# Altium footprint library RCDQLY.PCBLIB: 125 footprints (part 7 of 8)
Each footprint in its own frame and in the unit in brackets; x right, y up, seen from the top. Pads: shape width x height; smd on the part's side, far side on the other; paste and mask are expansions set on the pad; w line width, h text height; cw(c..) or ccw(c..) is an arc to the next point about the centre after c.
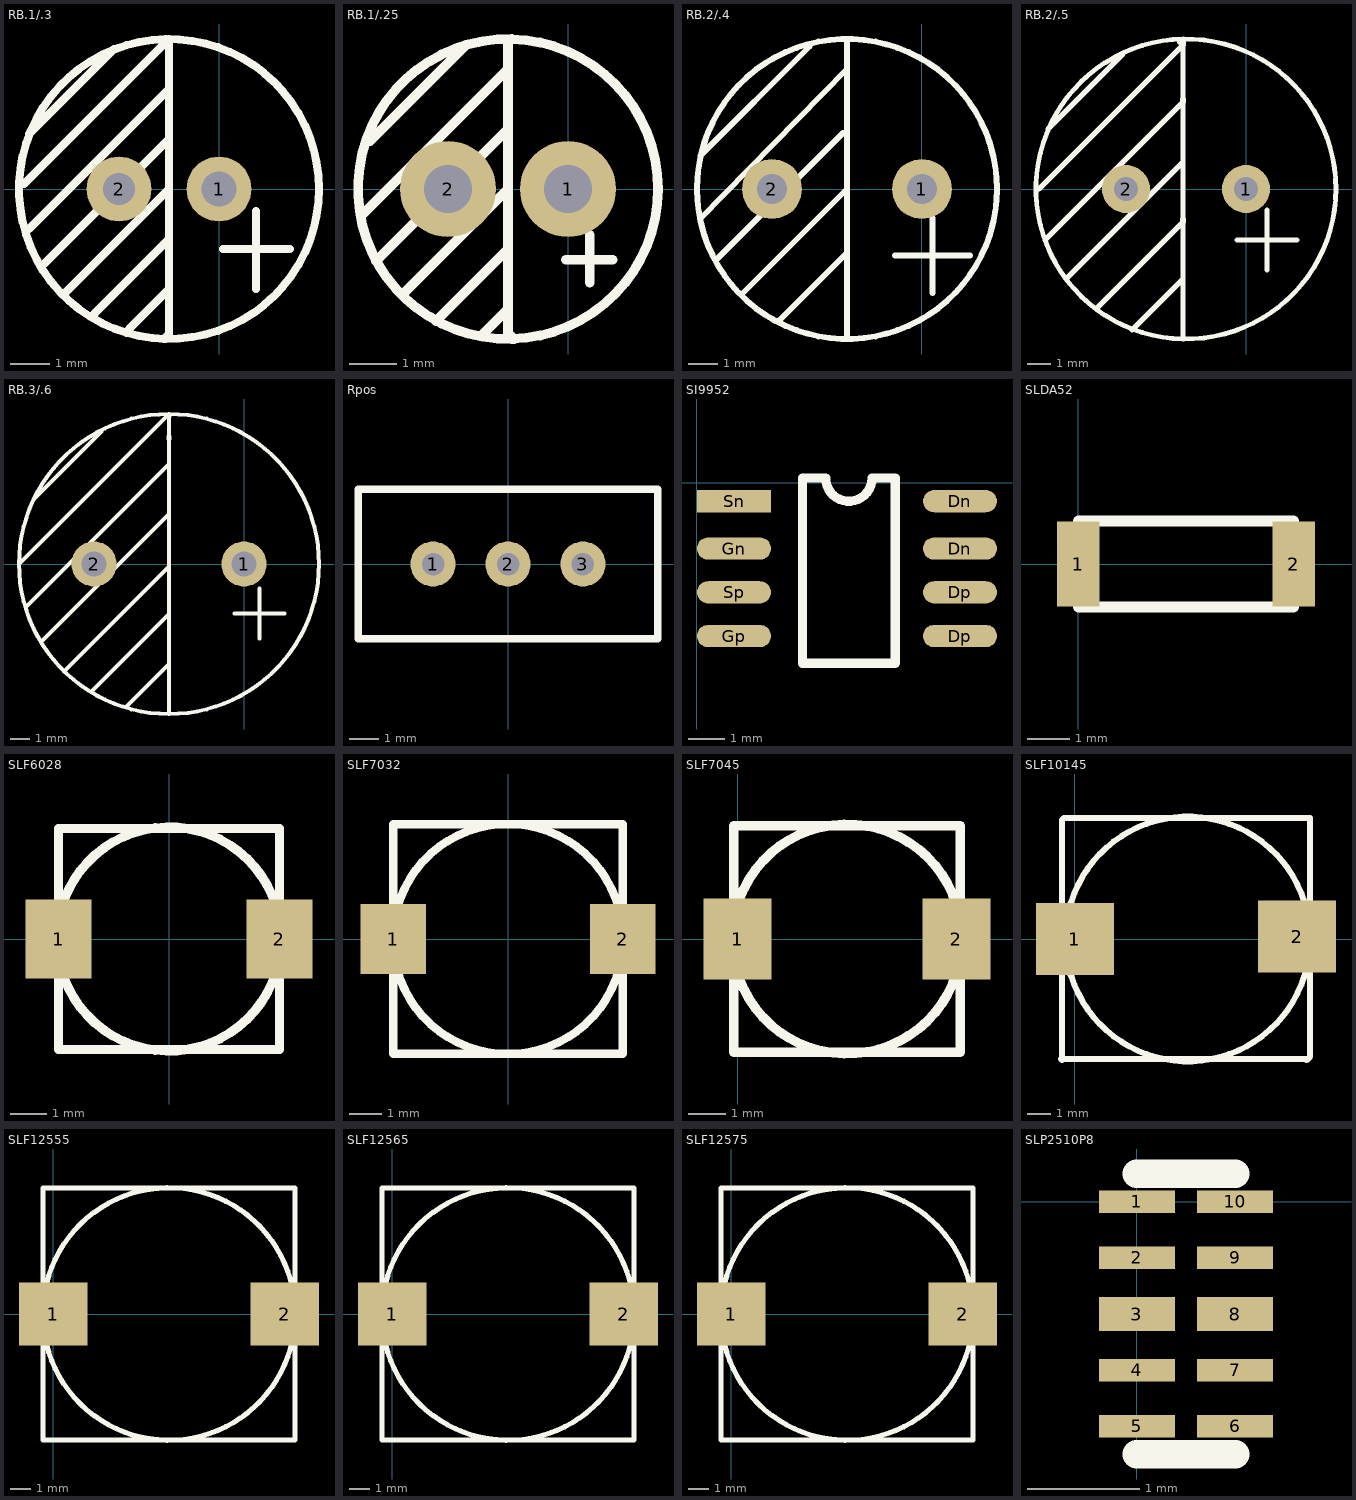
[diagram p6: the footprints below, top view; thin cyan lines are the x and y axes]

## RB.1/.3 [mil]
pads (2):
  round 65 hole 35: 1(0,0)
  round 65 hole 32: 2(-100,0)
TopOverlay:
  circle w8: c-50,0 r150
  lines w8: -195,5 -50,150 -50,-145 -55,-150 ; -190,-40 -50,100 ; -190,55 -105,140 ; -175,-75 -50,50 ; -155,-105 -50,0 ; -125,-125 -50,-50 ; -90,-140 -50,-100 ; 4,-60 71,-60 ; 37,-100 37,-22

## RB.1/.25 [mil]
pads (2):
  round 80 hole 40: 1(0,0) 2(-100,0)
TopOverlay:
  circle w8: c-50,0 r125
  lines w8: -170,-20 -50,100 ; -165,40 -85,120 ; -160,-60 -50,50 ; -135,-85 -50,0 ; -110,-110 -50,-50 ; -70,-120 -50,-100 -50,-105 ; -50,120 -50,-120 -45,-125 ; -2,-59 37.37,-59 ; 18,-78 18,-38

## RB.2/.4 [mil]
pads (2):
  round 80 hole 40: 1(0,0) 2(-200,0)
TopOverlay:
  circle w8: c-100,0 r200
  lines w8: -296,-40 -100,160 ; -295,45 -150,190 ; -275,-95 -105,75 -100,75 ; -240,-140 -100,0 ; -190,-175 -100,-85 ; -100,-200 -100,200 ; -36,-89 64,-89 ; 14,-139 14,-39

## RB.2/.5 [mil]
pads (2):
  round 80 hole 40: 1(0,0) 2(-200,0)
TopOverlay:
  circle w8: c-100,0 r250
  lines w8: -345,0 -105,240 ; -335,-85 -105,145 ; -330,100 -205,225 ; -300,-150 -105,45 ; -250,-200 -105,-55 ; -190,-235 -105,-150 ; -105,-250 -105,245 ; -15,-85 85,-85 ; 35,-135 35,-35
  lines w10: -110,245 -105,245 -105,240 ; -105,-55 -105,-50 ; -105,145 -105,150

## RB.3/.6 [mil]
pads (2):
  round 90 hole 50: 1(0,0) 2(-300,0)
TopOverlay:
  circle w8: c-150,0 r300
  lines w8: -450,0 -155,295 ; -435,-85 -150,200 ; -420,130 -285,265 ; -405,-155 -150,100 ; -360,-215 -150,-5 ; -305,-255 -150,-100 ; -235,-285 -150,-200 ; -150,-300 -150,295 ; -19,-99 81,-99 ; 31,-149 31,-49
  lines w10: -155,295 -150,295 ; -150,250 -150,255

## Rpos [mil]
pads (3):
  round 60 hole 30: 1(-100,0) 2(0,0) 3(100,0)
TopOverlay:
  lines w10: -200,-100 200,-100 200,100 -200,100 -200,-100

## SI9952 [mil]
pads (8):
  oval 80x24 smd: Dn(284.41,-71.18) Dn(284.41,-20) Dp(284.41,-165.67) Dp(284.41,-118.42) Gn(40.31,-71.18) Gp(40.31,-165.67) Sp(40.31,-118.42)
  rect 80x24 smd: Sn(40.31,-20)
TopOverlay:
  lines w10: 114.39,-195.06 114.39,4.94 139.39,4.94 ccw(c164.39,4.94) 189.39,4.94 214.39,4.94 214.39,-195.06 114.39,-195.06

## SLDA52 [mm]
pads (2):
  rect 1x2 smd: 1(0,0) 2(5.08,0)
TopOverlay:
  lines w0.254: 0,-1.016 0,1.016 5.08,1.016 5.08,-1.016 0,-1.016

## SLF6028 [mm]
pads (2):
  rect 1.8x2.15 smd: 1(-3,0) 2(3,0)
TopOverlay:
  circle w0.254: c0,0 r3.041
  lines w0.254: -3,-3 -3,3 3,3 3,-3 -3,-3

## SLF7032 [mm]
pads (2):
  rect 2x2.15 smd: 1(-3.5,0) 2(3.5,0)
TopOverlay:
  circle w0.254: c0,0 r3.509
  lines w0.254: -3.5,-3.5 3.5,-3.5 3.5,3.5 -3.5,3.5 -3.5,-3.5

## SLF7045 [mm]
pads (2):
  rect 1.8x2.15 smd: 1(0,0) 2(5.8,0)
TopOverlay:
  circle w0.254: c2.9,0 r3.041
  lines w0.254: -0.1,-3 5.9,-3 5.9,3 -0.1,3 -0.1,-3

## SLF10145 [mil]
pads (2):
  rect 130x120 smd: 1(0,0) 2(370.08,3.94)
TopOverlay:
  circle w10: c188.04,0 r204.01
  lines w10: -22.96,-200 385.04,-200 ; -21.96,-202 -21.96,0 ; -21.96,-12 -21.96,198 -17.96,202 392.04,202 392.04,-196 ; 392.04,-196 386.04,-202 392.04,-196

## SLF12555 [mm]
pads (2):
  rect 3.4x3.15 smd: 1(0,0) 2(11.5,0)
TopOverlay:
  circle w0.254: c5.75,0 r6.27
  lines w0.254: -0.5,-6.25 12,-6.25 12,6.25 -0.5,6.25 -0.5,-6.25

## SLF12565 [mm]
pads (2):
  rect 3.4x3.15 smd: 1(0,0) 2(11.5,0)
TopOverlay:
  circle w0.254: c5.75,0 r6.27
  lines w0.254: -0.5,-6.25 12,-6.25 12,6.25 -0.5,6.25 -0.5,-6.25

## SLF12575 [mm]
pads (2):
  rect 3.4x3.15 smd: 1(0,0) 2(11.5,0)
TopOverlay:
  circle w0.254: c5.75,0 r6.27
  lines w0.254: -0.5,-6.25 12,-6.25 12,6.25 -0.5,6.25 -0.5,-6.25

## SLP2510P8 [mm]
pads (10):
  rect 0.675x0.2 smd: 1(0,0) 2(0,-0.5) 4(0,-1.5) 5(0,-2) 6(0.875,-2) 7(0.875,-1.5) 9(0.875,-0.5) 10(0.875,0)
  rect 0.675x0.3 smd: 3(0,-1) 8(0.875,-1)
TopOverlay:
  lines w0.254: 0,-2.25 0.875,-2.25 ; 0,0.25 0.875,0.25